# EAGLE library part W25Q16JVUXIQ_TR (library W25Q16JVUXIQ_TR)
NOR Flash spiFlash, 3V, 16M-bit, 4Kb Uniform Sector, DTR Source: Datasheet <https://componentsearchengine.com/Datasheets/1/W25Q16JVUXIQ TR.pdf>
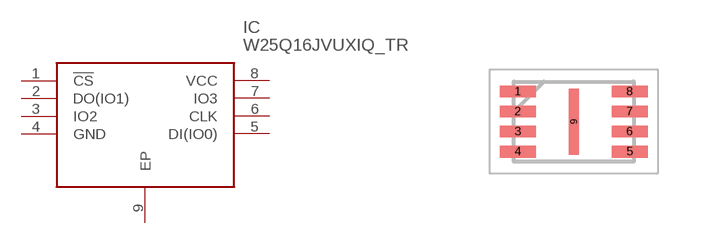
[diagram p0: symbol with the pads of SON50P300X200X60-9N; footprint SON50P300X200X60-9N]

Designator prefix IC

## W25Q16JVUXIQ_TR (Arrow_Part_Number: W25Q16JVUXIQ TR; Arrow_Price-Stock: https://www.arrow.com/en/products/w25q16jvuxiqtr/winbond-electronics?utm_currency=USD&region=nac; Description: NOR Flash spiFlash, 3V, 16M-bit, 4Kb Uniform Sector, DTR; Height: 0.6mm; Manufacturer_Name: Winbond; Manufacturer_Part_Number: W25Q16JVUXIQ TR; Mouser_Part_Number: 454-W25Q16JVUXIQTR; Mouser_Price-Stock: https://www.mouser.co.uk/ProductDetail/Winbond/W25Q16JVUXIQ-TR?qs=qSfuJ%252Bfl%2Fd7SDdIHLGOd1g%3D%3D)  [SON50P300X200X60-9N]
1  !CS
2  DO(IO1)
3  IO2
4  GND
5  DI(IO0)
6  CLK
7  IO3
8  VCC
9  EP

## Footprint SON50P300X200X60-9N (pad centres in mm)
USON 2x3x0.6-mm
smd 0.9 x 0.3: 1 -1.4,0.75; 2 -1.4,0.25; 3 -1.4,-0.25; 4 -1.4,-0.75; 5 1.4,-0.75; 6 1.4,-0.25; 7 1.4,0.25; 8 1.4,0.75
smd 0.25 x 1.65: 9 0,0